# Altium footprint library 691 243 400 0xx.PcbLib: 8 footprints
Each footprint in its own frame and in the unit in brackets; x right, y up, seen from the top. Pads: shape width x height; smd on the part's side, far side on the other; paste and mask are expansions set on the pad; w line width, h text height; cw(c..) or ccw(c..) is an arc to the next point about the centre after c.
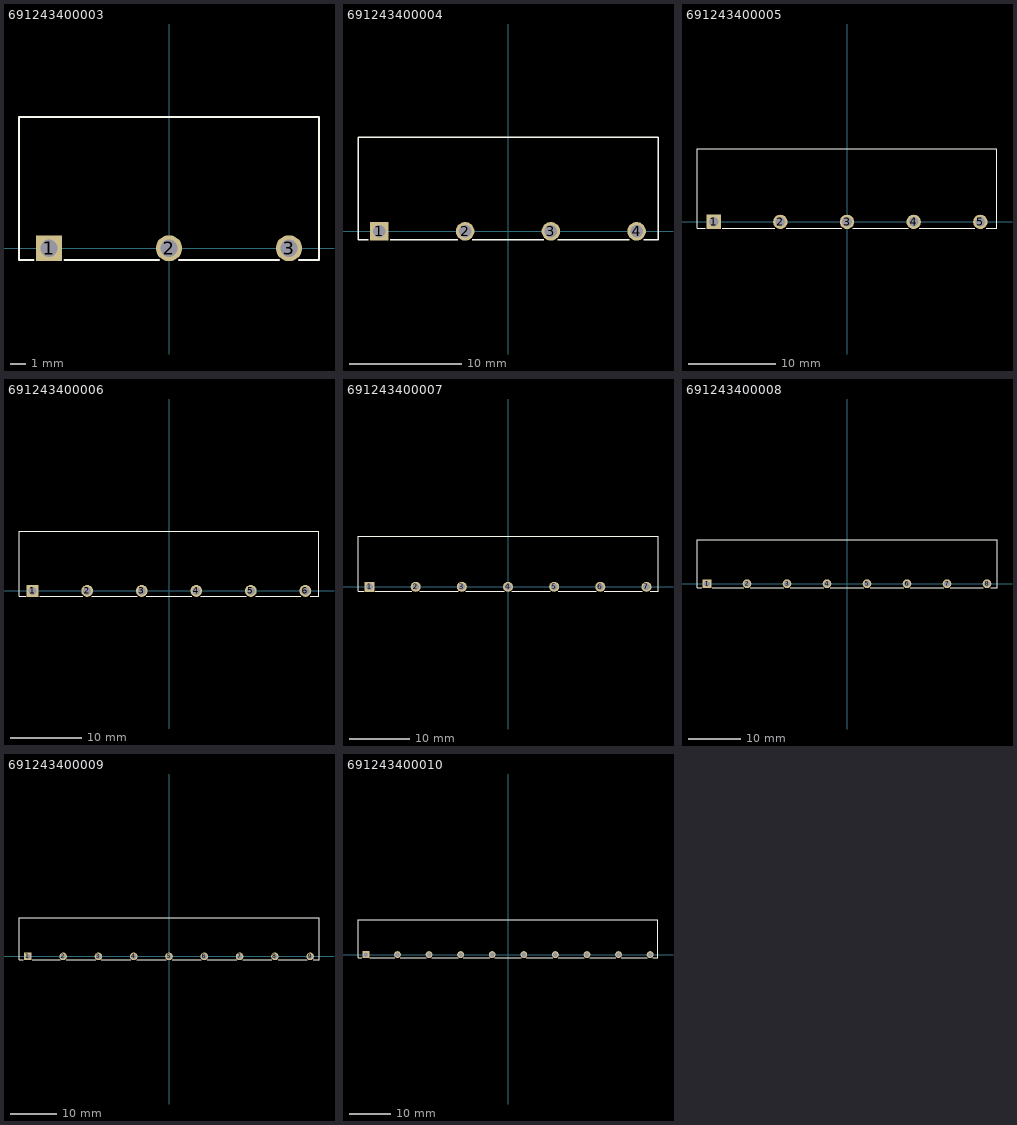
[diagram p0: the footprints below, top view; thin cyan lines are the x and y axes]

## 691243400003 [mm] "Serie 2434 - 7.62 mm _ 3 pins"
height 7.3
pads (3):
  rect 1.65x1.65 hole 1.1: 1(-7.62,0)
  round 1.65 hole 1.1: 2(0,0) 3(7.62,0)
Top Overlay:
  lines w0.127: -8.6,-0.75 -9.525,-0.75 -9.525,8.35 9.525,8.35 9.525,-0.75 8.25,-0.75 ; -6.65,-0.75 -0.65,-0.75 ; 0.65,-0.75 7,-0.75
3D body: height 7.35, standoff -3.45, extent -9.525,-0.75 9.525,8.35

## 691243400004 [mm] "Serie 2434 - 7.62 mm _ 4 pins"
height 7.3
pads (4):
  rect 1.65x1.65 hole 1.1: 1(-11.43,0)
  round 1.65 hole 1.1: 2(-3.81,0) 3(3.81,0) 4(11.43,0)
Top Overlay:
  lines w0.127: -12.41,-0.75 -13.335,-0.75 -13.335,8.35 13.335,8.35 13.335,-0.75 12.05,-0.75 ; -10.46,-0.75 -4.46,-0.75 ; -3.16,-0.75 3.19,-0.75 ; 4.44,-0.75 10.8,-0.75
3D body: height 7.35, standoff -3.45, extent -13.32,-0.75 13.35,8.35

## 691243400005 [mm] "Serie 2434 - 7.62 mm _ 5 pins"
height 7.3
pads (5):
  rect 1.65x1.65 hole 1.1: 1(-15.24,0)
  round 1.65 hole 1.1: 2(-7.62,0) 3(0,0) 4(7.62,0) 5(15.24,0)
Top Overlay:
  lines w0.127: -16.22,-0.75 -17.145,-0.75 -17.145,8.35 17.145,8.35 17.145,-0.75 15.9,-0.75 ; -14.27,-0.75 -8.27,-0.75 ; -6.97,-0.75 -0.62,-0.75 ; 0.63,-0.75 6.99,-0.75 ; 8.24,-0.75 14.6,-0.75
3D body: height 7.35, standoff -3.45, extent -17.15,-0.75 17.14,8.35

## 691243400006 [mm] "Serie 2434 - 7.62 mm _ 6 pins"
height 7.3
pads (6):
  rect 1.65x1.65 hole 1.1: 1(-19.05,0)
  round 1.65 hole 1.1: 2(-11.43,0) 3(-3.81,0) 4(3.81,0) 5(11.43,0) 6(19.05,0)
Top Overlay:
  lines w0.127: -20.03,-0.75 -20.955,-0.75 -20.955,8.35 20.955,8.35 20.955,-0.75 19.7,-0.75 ; -18.08,-0.75 -12.08,-0.75 ; -10.78,-0.75 -4.43,-0.75 ; -3.18,-0.75 3.18,-0.75 ; 4.43,-0.75 10.79,-0.75 ; 12.09,-0.75 18.4,-0.75
3D body: height 7.35, standoff -3.45, extent -20.96,-0.75 20.95,8.35

## 691243400007 [mm] "Serie 2434 - 7.62 mm _ 7 pins"
height 7.3
pads (7):
  rect 1.65x1.65 hole 1.1: 1(-22.86,0)
  round 1.65 hole 1.1: 2(-15.24,0) 3(-7.62,0) 4(0,0) 5(7.62,0) 6(15.24,0) 7(22.86,0)
Top Overlay:
  lines w0.127: -23.84,-0.75 -24.765,-0.75 -24.765,8.35 24.765,8.35 24.765,-0.75 23.5,-0.75 ; -21.89,-0.75 -15.89,-0.75 ; -14.59,-0.75 -8.24,-0.75 ; -6.99,-0.75 -0.63,-0.75 ; 0.62,-0.75 6.98,-0.75 ; 8.28,-0.75 14.59,-0.75 ; 15.89,-0.75 22.2,-0.75
3D body: height 7.35, standoff -3.45, extent -24.78,-0.75 24.75,8.35

## 691243400008 [mm] "Serie 2434 - 7.62 mm _ 8 pins"
height 7.3
pads (8):
  rect 1.65x1.65 hole 1.1: 1(-26.67,0)
  round 1.65 hole 1.1: 2(-19.05,0) 3(-11.43,0) 4(-3.81,0) 5(3.81,0) 6(11.43,0) 7(19.05,0) 8(26.67,0)
Top Overlay:
  lines w0.127: -27.65,-0.75 -28.575,-0.75 -28.575,8.35 28.575,8.35 28.575,-0.75 27.35,-0.75 ; -25.7,-0.75 -19.7,-0.75 ; -18.4,-0.75 -12.05,-0.75 ; -10.8,-0.75 -4.44,-0.75 ; -3.19,-0.75 3.17,-0.75 ; 4.47,-0.75 10.78,-0.75 ; 12.08,-0.75 18.39,-0.75 ; 19.69,-0.75 26,-0.75
3D body: height 7.35, standoff -3.45, extent -28.55,-0.75 28.6,8.35

## 691243400009 [mm] "Serie 2434 - 7.62 mm _ 9 pins"
height 7.3
pads (9):
  rect 1.65x1.65 hole 1.1: 1(-30.48,0)
  round 1.65 hole 1.1: 2(-22.86,0) 3(-15.24,0) 4(-7.62,0) 5(0,0) 6(7.62,0) 7(15.24,0) 8(22.86,0) 9(30.48,0)
Top Overlay:
  lines w0.127: -31.46,-0.75 -32.385,-0.75 -32.385,8.35 32.385,8.35 32.385,-0.75 31.15,-0.75 ; -29.51,-0.75 -23.51,-0.75 ; -22.21,-0.75 -15.86,-0.75 ; -14.61,-0.75 -8.25,-0.75 ; -7,-0.75 -0.64,-0.75 ; 0.66,-0.75 6.97,-0.75 ; 8.27,-0.75 14.58,-0.75 ; 15.88,-0.75 22.19,-0.75 ; 23.54,-0.75 29.8,-0.75
3D body: height 7.35, standoff -3.45, extent -32.37,-0.75 32.4,8.35

## 691243400010 [mm] "Serie 2434 - 7.62 mm _ 10 pins"
height 7.3
pads (10):
  rect 1.65x1.65 hole 1.1: 1(-34.29,0)
  round 1.65 hole 1.1: 2(-26.67,0) 3(-19.05,0) 4(-11.43,0) 5(-3.81,0) 6(3.81,0) 7(11.43,0) 8(19.05,0) 9(26.67,0) 10(34.29,0)
Top Overlay:
  lines w0.127: -35.27,-0.75 -36.195,-0.75 -36.195,8.35 36.195,8.35 36.195,-0.75 34.95,-0.75 ; -33.32,-0.75 -27.32,-0.75 ; -26.02,-0.75 -19.67,-0.75 ; -18.42,-0.75 -12.06,-0.75 ; -10.81,-0.75 -4.45,-0.75 ; -3.15,-0.75 3.16,-0.75 ; 4.46,-0.75 10.77,-0.75 ; 12.07,-0.75 18.38,-0.75 ; 19.73,-0.75 25.99,-0.75 ; 27.34,-0.75 33.65,-0.75
3D body: height 7.35, standoff -3.45, extent -36.195,-0.75 36.195,8.35